# Altium schematic symbol library 2024-01-20_19-14-39.SchLib: 1 symbol
Pins are listed as number, name and electrical type; pins without a type are passive.

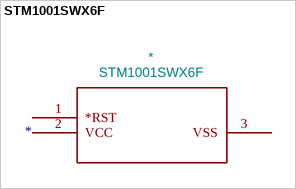
[diagram p0: symbol STM1001SWX6F]

## STM1001SWX6F
designator *  value STM1001SWX6F
ki_fp_filters: SOT-23_STM SOT-23_STM-M SOT-23_STM-L; Footprint: SOT-23_STM; Supplier: STM1001SWX6F; ki_keywords: STM1001SWX6F
footprint SOT-23_STM
pins: 1 *RST, 2 VCC, 3 VSS